# EAGLE library part TS5A22362YZPR (library ecad)
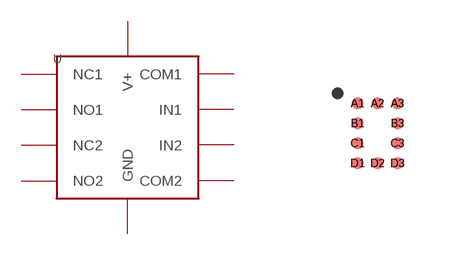
[diagram p0: symbol with the pads of 10_DSBGA; footprint 10_DSBGA]

Designator prefix U

## TS5A22362YZPR  [10_DSBGA]
A1  NO2  pas
A2  V+  pas
A3  NO1  pas
B1  COM1  pas
B3  COM2  pas
C1  NC1  pas
C3  NC2  pas
D1  IN1  pas
D2  GND  pas
D3  IN2  pas

## Footprint 10_DSBGA (pad centres in mm)
smd 0.3 x 0.3: A1 -0.5,0.75; A2 0,0.75; A3 0.5,0.75; B1 -0.5,0.25; B3 0.5,0.25; C1 -0.5,-0.25; C3 0.5,-0.25; D1 -0.5,-0.75; D2 0,-0.75; D3 0.5,-0.75